# EAGLE library part 3P4T (library mb3_switches)
3P-4T Rotary
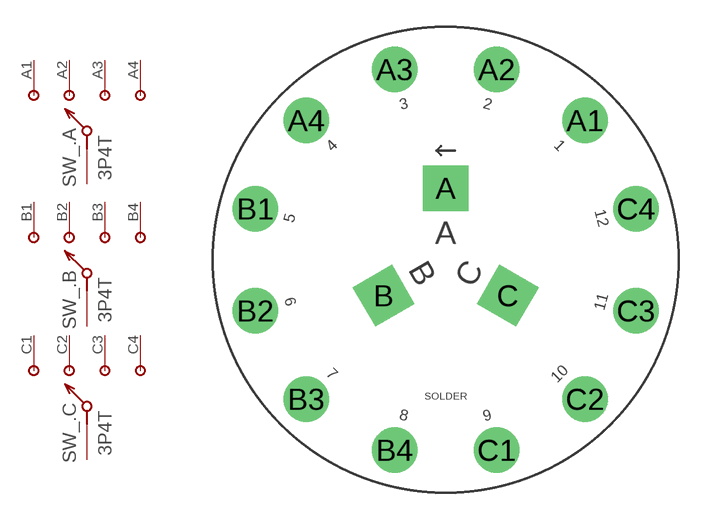
[diagram p3: symbol with the pads of 3P4T; footprint 3P4T]

Designator prefix SW_; gates .A=1P4T .B=1P4T .C=1P4T

## 3P4T  [3P4T]
A  .A:A
A1  .A:1
A2  .A:2
A3  .A:3
A4  .A:4
B  .B:A
B1  .B:1
B2  .B:2
B3  .B:3
B4  .B:4
C  .C:A
C1  .C:1
C2  .C:2
C3  .C:3
C4  .C:4

## Footprint 3P4T (pad centres in mm)
Alpha SR2612F-0304 http://smallbear-electronics.mybigcommerce.com/26mm-enclosed-3p2-4t/
drill 1.6 pad 2.54 square: A 0,4; B -3.464,-2; C 3.464,-2
drill 1.6 pad 2.54: A1 7.778,7.778; A2 2.847,10.625; A3 -2.847,10.625; A4 -7.778,7.778; B1 -10.625,2.847; B2 -10.625,-2.847; B3 -7.778,-7.778; B4 -2.847,-10.625; C1 2.847,-10.625; C2 7.778,-7.778; C3 10.625,-2.847; C4 10.625,2.847